# Altium schematic symbol library standard_components.SchLib: 34 symbols
Pins are listed as number, name and electrical type; pins without a type are passive.

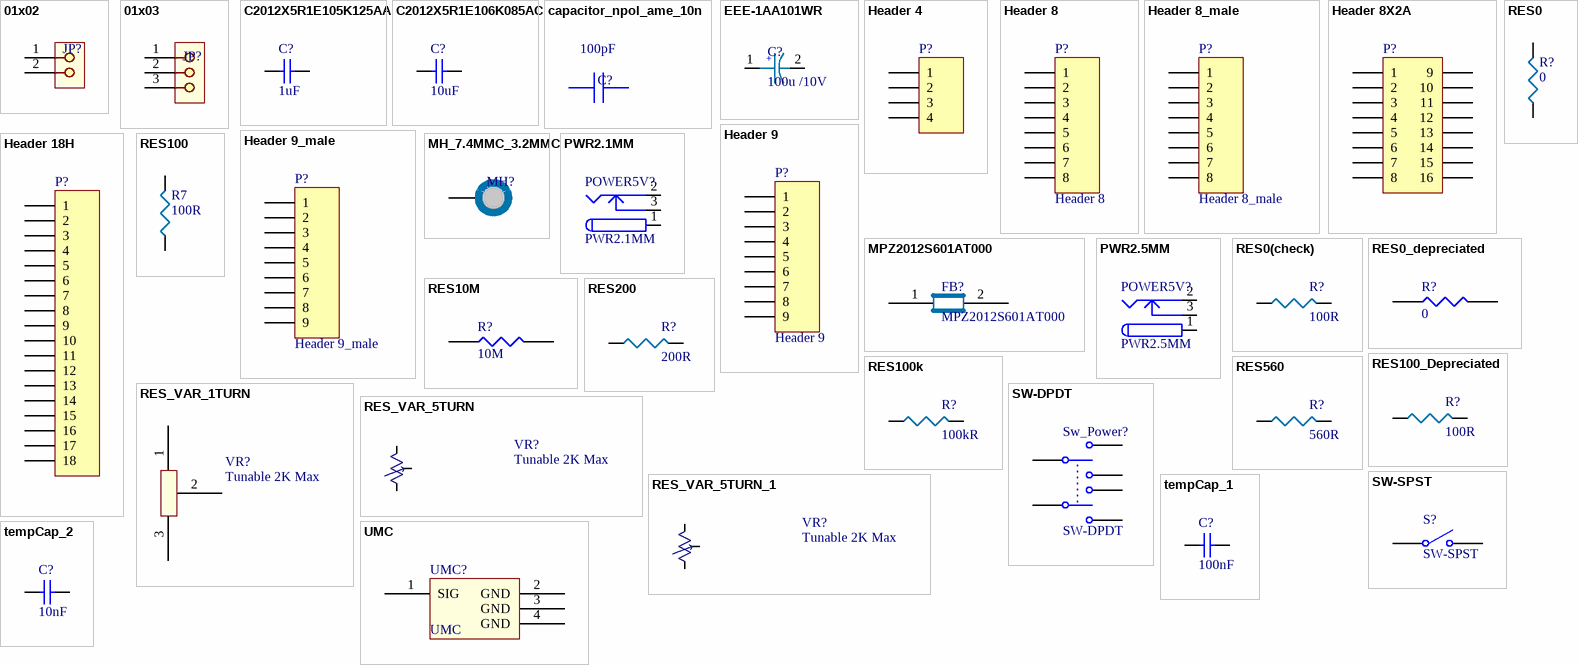
[diagram p0: symbols 01x02 to UMC]

## 01x02
designator JP?  (value not drawn)
01X02 generic terminal connector
pins: 1, 2

## 01x03
designator JP?  (value not drawn)
01X03 generic terminal connector
pins: 1, 2, 3

## C2012X5R1E105K125AA
designator C?, comment 1uF
CAP 1UF; Manufacturer: TDK; Manufacturer Part Number: C2012X5R1E105K125AA; Dielectric Material: Ceramic; Tolerance: 10%; Voltage Rating: 25V; Dielectric: X5R; Supplier 1: Digi-Key; Stock 1: 517560; Pricing 1: 1=0.21, 10=0.146, 100=0.0688, 500=0.0482, 1000=0.0399 (USD); Mount: Surface Mount; Case/Package: 0805; Number of Pins: 2; Weight: 0.000194oz; Case Code (Metric): 2012; Case Code (Imperial): 0805; Min Operating Temperature: -55°C; Max Operating Temperature: 85°C; Package Quantity: 2000; Capacitance: 1uF; Packaging: Tape and Reel; Voltage Rating (DC): 25V; Termination: SMD/SMT; Composition: Ceramic; Voltage: 25V; Length: 2mm; Height: 1.25mm; Width: 0.049inch; Thickness: 0.057inch; Depth: 1.25mm; Radiation Hardening: No; REACH SVHC: No SVHC; Lead Free: Lead Free; ComponentLink1URL: https://datasheet.ciiva.com/11787/0900766b80c1bb00-11787608.pdf; ComponentLink1Description: https://datasheet.ciiva.com/11787/0900766b80c1bb00-11787608.pdf; ComponentLink2URL: https://datasheet.ciiva.com/24218/c2012x5r1e105k125aa-264807-24218920.pdf; ComponentLink2Description: https://datasheet.ciiva.com/24218/c2012x5r1e105k125aa-264807-24218920.pdf; ComponentLink3URL: https://datasheet.ciiva.com/16449/e412-c-16449595.pdf; ComponentLink3Description: https://datasheet.ciiva.com/16449/e412-c-16449595.pdf; ComponentLink4URL: https://datasheet.ciiva.com/28602/1744655-28602171.pdf; ComponentLink4Description: https://datasheet.ciiva.com/28602/1744655-28602171.pdf; ComponentLink5URL: https://datasheet.ciiva.com/15192/getdatasheetpartid-726707-15192140.pdf; ComponentLink5Description: https://datasheet.ciiva.com/15192/getdatasheetpartid-726707-15192140.pdf; Supplier Part Number 1: 445-1419-1-ND
footprint C0805
pins: 1, 2

## C2012X5R1E106K085AC
designator C?, comment 10uF
CAP 10UF; Manufacturer: TDK; Manufacturer Part Number: C2012X5R1E106K085AC; Dielectric Material: Ceramic; Tolerance: 10%; Voltage Rating: 25V; Dielectric: X5R; Supplier 1: Digi-Key; Stock 1: 18719; Pricing 1: 1=0.75, 10=0.53, 100=0.3493, 500=0.2588, 1000=0.2199 (USD); Mount: Surface Mount; Case/Package: 0805; Weight: 0.000194oz; Case Code (Metric): 2012; Case Code (Imperial): 0805; Min Operating Temperature: -55°C; Max Operating Temperature: 85°C; Package Quantity: 4000; Packaging: Tape and Reel; Capacitance: 10uF; Termination: SMD/SMT; Voltage Rating (DC): 25V; Length: 0.079inch; Height: 0.85mm; Width: 0.049inch; Thickness: 0.039inch; Lead Free: Lead Free; ComponentLink1URL: https://datasheet.ciiva.com/14894/tdkmlcccaprange-14894629.pdf; ComponentLink1Description: https://datasheet.ciiva.com/14894/tdkmlcccaprange-14894629.pdf; ComponentLink2URL: https://datasheet.ciiva.com/14894/tdkmlcccaprange-14894616.pdf; ComponentLink2Description: https://datasheet.ciiva.com/14894/tdkmlcccaprange-14894616.pdf; ComponentLink3URL: https://datasheet.ciiva.com/14894/tdkmlcccaprange-14894632.pdf; ComponentLink3Description: https://datasheet.ciiva.com/14894/tdkmlcccaprange-14894632.pdf; Supplier Part Number 1: 445-14387-1-ND
footprint C0805
pins: 1, 2

## capacitor_npol_ame_10n
designator C?  value 100pF  (hidden comment: capacitor_npol_ame_10n)
Capacitor Non-polarized American Symbol
footprint rcl_0201i_0603m_nominal (Chip RCL, 0201 Imperial, 0603 Metric, 2-Leads, Body 0.6x0.3mm, IPC Nominal Medium Density)
footprint rcl_0402i_1005m_nominal (Chip RCL, 0402 Imperial, 1005 Metric, 2-Leads, Body 1.00x0.5mm, IPC Nominal Medium Density)
footprint rcl_0603i_1608m_nominal (Chip RCL, 0603 Imperial, 1608 Metric, 2-Leads, Body 1.6x0.8mm, IPC Nominal Medium Density)
footprint rcl_0805i_2012m_nominal (Chip RCL, 0805 Imperial, 2012 Metric, 2-Leads, Body 2.00x1.25mm, IPC Nominal Medium Density)
footprint rcl_0201i_0603m_least (Chip RCL, 0201 Imperial, 0603 Metric, 2-Leads, Body 0.6x0.3mm, IPC Least Land (High Density))
footprint rcl_0201i_0603m_most (Chip RCL, 0201 Imperial, 0603 Metric, 2-Leads, Body 0.6x0.3mm, IPC Most Land (Low Density))
footprint rcl_0402i_1005m_least (Chip RCL, 0402 Imperial, 1005 Metric, 2-Leads, Body 1.00x0.5mm, IPC Least Land (High Density))
footprint rcl_0402i_1005m_most (Chip RCL, 0402 Imperial, 1005 Metric, 2-Leads, Body 1.00x0.5mm, IPC Most Land (Low Density))
footprint rcl_0603i_1608m_least (Chip RCL, 0603 Imperial, 1608 Metric, 2-Leads, Body 1.6x0.8mm, IPC Least Land (High Density))
footprint rcl_0603i_1608m_most (Chip RCL, 0603 Imperial, 1608 Metric, 2-Leads, Body 1.6x0.8mm, IPC Most Land (Low Density))
footprint rcl_0805i_2012m_least (Chip RCL, 0805 Imperial, 2012 Metric, 2-Leads, Body 2.00x1.25mm, IPC Least Land (High Density))
footprint rcl_0805i_2012m_most (Chip RCL, 0805 Imperial, 2012 Metric, 2-Leads, Body 2.00x1.25mm, IPC Most Land (Low Density))
footprint axial_2.40mmdx6.30mml-0.094inchDx0.248inchL (Axial 2.40mm Diameter x6.30mm Length (0.094"Dx0.248"L))
pins: 1, 2

## EEE-1AA101WR
designator C?, comment 100u /10V
CAP ALUM 100UF 20% 10V SMD; Manufacturer: Panasonic Electronic Components; Manufacturer Part Number: EEE-1AA101WR; Lifetime @ Temp.: 1000 Hrs @ 85°C; Polarization: Polar; Surface Mount Land Size: 0.209" L x 0.209" W (5.30mm x 5.30mm); Supplier 1: Digi-Key; RoHS: RoHS Compliant; Category: Capacitors; Stock 1: 89696; Pricing 1: 1=0.31, 10=0.212, 100=0.1272, 500=0.09538 (USD); Packaging: Cut Tape (CT); Part Status: Active; Tolerance: ±20%; ESR (Equivalent Series Resistance): -; Operating Temperature: -40°C ~ 85°C; Ratings: AEC-Q200; Applications: Automotive; Lead Spacing: -; Size / Dimension: 0.197" Dia (5.00mm); Height - Seated (Max): 0.213" (5.40mm); Mounting Type: Surface Mount; Package / Case: Radial, Can - SMD; ComponentLink1URL: https://industrial.panasonic.com/cdbs/www-data/pdf/RDE0000/ABA0000C1145.pdf; ComponentLink1Description: https://industrial.panasonic.com/cdbs/www-data/pdf/RDE0000/ABA0000C1145.pdf; Supplier Part Number 1: PCE3867CT-ND
footprint C_ALU_C_SIZE
pins: 1, 2
text: +

## Header 4
designator P?
Header, 4-Pin; LatestRevisionDate: 17-Jul-2002; LatestRevisionNote: Re-released for DXP Platform.; Publisher: Altium Limited
footprint HDR1X4 (Connector; Header; 4 Position)
signal-integrity model Connector
pins: 1, 2, 3, 4

## Header 8
designator P?
Header, 8-Pin; Manufacturer: TE Connectivity AMP Connectors; Manufacturer Part Number: 5-535541-6; Manufacturer Link: https://www.te.com/usa-en/product-5-535541-6.html; Supplier1: Digikey; Supplier Link 1: https://www.digikey.ca/product-detail/en/te-connectivity-amp-connectors/5-535541-6/A32921-ND/1092992; Supplier Part Number 1: A32921-ND; Stock1: 2,929; Price1: 1  2.79000  $2.79  28  2.37000  $66.36  112  2.16411  $242.38  504  1.80345  $908.94  1,008  1.54581  $1,558.18  5,012  1.37062  $6,869.56  10,024  1.33971  (CAD); ComponentLink1URL: https://www.te.com/commerce/DocumentDelivery/DDEController?Action=srchrtrv&DocNm=535541&DocType=Customer+Drawing&DocLang=English; ComponentLink1Description: Datasheet
footprint TE_5-535541-6 (CONN RCPT 8POS 0.1 GOLD PCB)
signal-integrity model Connector
pins: 1, 2, 3, 4, 5, 6, 7, 8

## Header 8_male
designator P?
Header, 8-Pin; LatestRevisionDate: 17-Jul-2002; LatestRevisionNote: Re-released for DXP Platform.; Publisher: Altium Limited
footprint HDR1X8 (Connector; Header; 8 Position)
signal-integrity model Connector
pins: 1, 2, 3, 4, 5, 6, 7, 8

## Header 8X2A
designator P?
Header, 8-Pin, Dual row; LatestRevisionDate: 17-Jul-2002; LatestRevisionNote: Re-released for DXP Platform.; Publisher: Altium Limited
footprint HDR2X8_CEN (Connector; Header; 8x2 Position)
signal-integrity model Connector
footprint TE_534998-8 (CONN RCPT 16POS 0.1 GOLD PCB)
pins: 1, 2, 3, 4, 5, 6, 7, 8, 9, 10, 11, 12, 13, 14, 15, 16

## Header 9
designator P?
Header, 9-Pin; Manufacturer: TE Connectivity AMP Connectors; Manufacturer Part Number: 5-535541-7; Manufacturer Link: https://www.te.com/usa-en/product-5-535541-7.html; Supplier1: Digikey; Supplier Link 1: https://www.digikey.ca/product-detail/en/te-connectivity-amp-connectors/5-535541-7/A115427-ND/2278584; Supplier Part Number 1: A115427-ND; Stock1: 1,550; Price1: 1=2.79000;  25=2.37040;  100=2.16410;  500=1.80346;  1,000=1.54582  ;5,000=1.37062;  10,000=1.33971 (CAD); ComponentLink1URL: https://www.te.com/commerce/DocumentDelivery/DDEController?Action=srchrtrv&DocNm=535541&DocType=Customer+Drawing&DocLang=English; ComponentLink1Description: Datasheet
footprint TE_5-535541-7 (CONN RCPT 9POS 0.1 GOLD PCB)
signal-integrity model Connector
pins: 1, 2, 3, 4, 5, 6, 7, 8, 9

## Header 9_male
designator P?
Header, 9-Pin; Manufacturer: TE Connectivity AMP Connectors; Manufacturer Part Number: 3-644456-9; Manufacturer Link: https://www.te.com/global-en/product-3-644456-9.html; Supplier 1: Digikey; Supplier Link 1: https://www.digikey.ca/product-detail/en/te-connectivity-amp-connectors/3-644456-9/A31119-ND/698351; Supplier Part Number 1: A31119-ND; Stock1: 6,446; Price1: 1=0.81000;  10=0.76300;  100=0.58520;  500=0.50888;  1,000=0.41984;  5,000=0.36894;  10,000=0.34350 (CAD); ComponentLink1URL: https://www.te.com/commerce/DocumentDelivery/DDEController?Action=srchrtrv&DocNm=644456&DocType=Customer+Drawing&DocLang=English; ComponentLink1Description: Datasheet
footprint TE_3-644456-9 (Connector Header Through Hole 9 position 0.100" (2.54mm))
signal-integrity model Connector
pins: 1, 2, 3, 4, 5, 6, 7, 8, 9

## Header 18H
designator P?
Header, 18-Pin, Right Angle; LatestRevisionDate: 17-Jul-2002; LatestRevisionNote: Re-released for DXP Platform.; Publisher: Altium Limited
footprint HDR1X18H (Connector; Header; 18 Position; Right Angle)
signal-integrity model Connector
pins: 1, 2, 3, 4, 5, 6, 7, 8, 9, 10, 11, 12, 13, 14, 15, 16, 17, 18

## MH_7.4MMC_3.2MMC
designator MH?, comment MH_7.4MMC_3.2MMD  (value not drawn)  (no BOM)
Mounting Hole 7.4mm Diameter, 3.2mm Drill
footprint MH_7.4MMD_3.2MMD
pins: 1

## MPZ2012S601AT000
designator FB?
FERRITE BEAD 600 OHM 0805 1LN; Manufacturer: TDK Corporation; Filter Type: Power Line; Current Rating (Max): 2A; DC Resistance (DCR) (Max): 100 mOhm; Supplier 1: Digi-Key; Manufacturer Part Number: MPZ2012S601AT000; RoHS: RoHS Compliant; Category: Filters; Stock 1: 379833; Pricing 1: 1=0.11, 10=0.091, 25=0.0704, 50=0.0584, 100=0.0503, 250=0.04028, 500=0.03624, 1000=0.0302 (USD); Packaging: Cut Tape (CT); Part Status: Active; Ratings: -; Operating Temperature: -55°C ~ 125°C; Package / Case: 0805 (2012 Metric); Mounting Type: Surface Mount; Height (Max): 0.041" (1.05mm); Size / Dimension: 0.079" L x 0.049" W (2.00mm x 1.25mm); ComponentLink1URL: https://product.tdk.com/info/en/catalog/datasheets/beads_commercial_power_mpz2012_en.pdf; ComponentLink1Description: https://product.tdk.com/info/en/catalog/datasheets/beads_commercial_power_mpz2012_en.pdf; Supplier Part Number 1: 445-2206-1-ND
footprint C0805
pins: 1, 2

## PWR2.1MM
designator POWER5V?
PJ-002AH; Manufacturer: CUI; Gender: Male; Shielding: Unshielded; Connector Type: Jack; Current Rating: 5A; Number of Conductors: 2; Voltage Rating: 24V; Insulation Resistance: 50MR; Supplier 1: Digi-Key; Manufacturer Part Number: PJ-002AH; Stock 1: 95768; Pricing 1: 1=0.74, 10=0.696, 25=0.6264, 50=0.5568, 100=0.5336, 250=0.4872, 500=0.464, 1000=0.3828, 2500=0.348 (USD); Mount: Through Hole; Colour: Black; Contact Material: Copper,Copper Alloy; Contact Plating: Nickel; Housing Material: Thermoplastic; Housing Colour: Black; Min Operating Temperature: -25°C; Max Operating Temperature: 85°C; Packaging: Bulk; Termination: Through Hole; Orientation: Horizontal; Package Quantity: 500; Contact Gender: Male; Diameter: 2.1mm; Lead Free: Lead Free; Flammability Rating: UL94 V-0; ComponentLink1URL: http://www.cui.com/Product/Resource/FuturePDF/PJ-002AH.pdf; ComponentLink1Description: http://www.cui.com/Product/Resource/FuturePDF/PJ-002AH.pdf; ComponentLink2URL: http://www.cui.com/product/resource/digikeypdf/pj-002ah.pdf; ComponentLink2Description: http://www.cui.com/product/resource/digikeypdf/pj-002ah.pdf; ComponentLink3URL: http://www.mouser.com/ds/2/670/pj-002ah-516007.pdf; ComponentLink3Description: http://www.mouser.com/ds/2/670/pj-002ah-516007.pdf; Supplier Part Number 1: CP-002AH-ND
footprint POWER2.1MM
pins: 1 (power), 2 (power), 3 (power)

## PWR2.5MM
designator POWER5V?
PJ-002BH; Manufacturer: CUI; Gender: Male; Shielding: Unshielded; Current Rating: 5A; Connector Type: Jack; Voltage Rating: 24V; Insulation Resistance: 100MR; Number of Conductors: 2; Supplier 1: Digi-Key; Manufacturer Part Number: PJ-002BH; Stock 1: 29521; Pricing 1: 1=0.74, 10=0.696, 25=0.6264, 50=0.5568, 100=0.5336, 250=0.4872, 500=0.464, 1000=0.3828, 2500=0.348 (USD); Mount: Through Hole; Contact Material: Copper,Copper Alloy; Contact Plating: Nickel; Housing Colour: Black; Housing Material: Thermoplastic; Colour: Black; Min Operating Temperature: -25°C; Max Operating Temperature: 85°C; Termination: Through Hole; Package Quantity: 500; Packaging: Bulk; Contact Gender: Male; Orientation: Horizontal; Diameter: 2.5mm; Lead Free: Lead Free; Flammability Rating: UL94 V-0; ComponentLink1URL: http://www.cui.com/Product/Resource/FuturePDF/PJ-002BH.pdf; ComponentLink1Description: http://www.cui.com/Product/Resource/FuturePDF/PJ-002BH.pdf; ComponentLink2URL: http://www.mouser.com/ds/2/670/pj-002bh-528069.pdf; ComponentLink2Description: http://www.mouser.com/ds/2/670/pj-002bh-528069.pdf; ComponentLink3URL: http://www.cui.com/product/resource/digikeypdf/pj-002bh.pdf; ComponentLink3Description: http://www.cui.com/product/resource/digikeypdf/pj-002bh.pdf; Supplier Part Number 1: CP-002BH-ND
footprint POWER2.5MM
pins: 1 (power), 2 (power), 3 (power)

## RES0
designator R?, comment 0
RC0805JR-070RL; Manufacturer: Yageo; Tolerance: 1%; Resistance: 0R; Temperature Coefficient: 100ppm/°C; Power Rating: 125mW; Voltage Rating: 150V; Supplier 1: Digi-Key; Manufacturer Part Number: RC0805JR-070RL; Stock 1: 3924855; Pricing 1: 1=0.15;  10=0.055;  25=0.0408;  50=0.0308;  100=0.0229;  250=0.01740;  500=0.0139;  1000=0.01024 (CAD); Case/Package: 0805; Case Code (Metric): 2012; Case Code (Imperial): 0805; Min Operating Temperature: -55°C; Max Operating Temperature: 155°C; Packaging: Tape and Reel; Composition: Thick Film; Package Quantity: 1; Number of Terminations: 2; Termination: SMD/SMT; Military Standard: Not; Max Power Dissipation: 125mW; Length: 2mm; Depth: 1.25mm; REACH SVHC: Unknown; Lead Free: Lead Free; Supplier Part Number 1: 311-0.0ARCT-ND; Supplier Link 1: https://www.digikey.ca/product-detail/en/yageo/RC0805JR-070RL/311-0.0ARCT-ND/731163
footprint R0805
pins: 1, 2

## RES0(check)
designator R?, comment 100R
RC0805FR-07100RL; Manufacturer: Yageo; Manufacturer Part Number: RC0805FR-07560RL; Tolerance: 1%; Temperature Coefficient: 100ppm/°C; Power Rating: 125mW; Voltage Rating: 150V; Supplier 1: Digi-Key; Stock 1: 8,560; Pricing 1: 1=0.15, 10=0.079, 100=0.032, 1000=0.01438, 2500=0.01247 (CAD); Case/Package: 0805; Weight: 0.000194oz; Case Code (Metric): 2012; Case Code (Imperial): 0805; Min Operating Temperature: -55°C; Max Operating Temperature: 155°C; Resistance: 100R; Packaging: Tape and Reel; Composition: Thick Film; Package Quantity: 1; Number of Terminations: 2; Termination: SMD/SMT; Military Standard: Not; Max Power Dissipation: 125mW; Length: 2mm; Height: 0.5mm; Width: 0.049inch; Depth: 1.25mm; REACH SVHC: Unknown; Lead Free: Lead Free; ComponentLink1URL: https://datasheet.ciiva.com/11808/0900766b8106beab-11808370.pdf; ComponentLink1Description: https://datasheet.ciiva.com/11808/0900766b8106beab-11808370.pdf; ComponentLink2URL: https://datasheet.ciiva.com/2457/pyu-r-int-thick-7-2457140.pdf; ComponentLink2Description: https://datasheet.ciiva.com/2457/pyu-r-int-thick-7-2457140.pdf; ComponentLink3URL: https://datasheet.ciiva.com/2457/pyu-r-int-thick-7-2457141.pdf; ComponentLink3Description: https://datasheet.ciiva.com/2457/pyu-r-int-thick-7-2457141.pdf; ComponentLink4URL: https://datasheet.ciiva.com/5561/rc0805-5561861.pdf; ComponentLink4Description: https://datasheet.ciiva.com/5561/rc0805-5561861.pdf; ComponentLink5URL: https://datasheet.ciiva.com/7941/444164-7941813.pdf; ComponentLink5Description: https://datasheet.ciiva.com/7941/444164-7941813.pdf; ComponentLink6URL: https://datasheet.ciiva.com/2457/pyu-r-int-thick-7-2457142.pdf; ComponentLink6Description: https://datasheet.ciiva.com/2457/pyu-r-int-thick-7-2457142.pdf; ComponentLink7URL: https://datasheet.ciiva.com/7941/444164-7941814.pdf; ComponentLink7Description: https://datasheet.ciiva.com/7941/444164-7941814.pdf; Supplier Part Number 1: 311-100CRCT-ND
footprint R0805
pins: 1, 2

## RES0_depreciated
designator R?, comment 0
RT0805BRE07200RL; Manufacturer: Yageo; Resistance: 200R; Tolerance: 0.1%; Temperature Coefficient: 50ppm/°C; Voltage Rating (DC): 150V; Supplier 1: Digi-Key; Manufacturer Part Number: RT0805BRE07200RL; Stock 1: 2864; Pricing 1: 1=0.33, 10=0.276, 100=0.1077, 1000=0.0451, 2500=0.0413 (USD); Case/Package: 0805; Contact Plating: Tin,Matte; Min Operating Temperature: -55°C; Max Operating Temperature: 125°C; Composition: Thin Film; Packaging: Tape and Reel; Military Standard: Not; Length: 2mm; Depth: 1.25mm; Width: 1.25mm; Radiation Hardening: No; Lead Free: Lead Free; ComponentLink1URL: https://datasheet.ciiva.com/8886/pyu-rt-1-to-0-05-rohs-l-4-8886876.pdf; ComponentLink1Description: https://datasheet.ciiva.com/8886/pyu-rt-1-to-0-05-rohs-l-4-8886876.pdf; Supplier Part Number 1: YAG4969CT-ND
footprint R0805
pins: 1, 2
2 alternate drawings of the same symbol

## RES10M
designator R?, comment 10M
RC0805FR-0710ML; Manufacturer: Yageo; Voltage Rating: 150V; Power Rating: 125mW; Tolerance: 1%; Resistance: 10MR; Temperature Coefficient: 100ppm/°C; Supplier 1: Digi-Key; Manufacturer Part Number: RC0805FR-0710ML; Stock 1: 482639; Pricing 1: 1=0.1, 10=0.023, 100=0.0094, 1000=0.0042, 2500=0.0037 (USD); Case/Package: 0805; Number of Pins: 2; Case Code (Imperial): 0805; Case Code (Metric): 2012; Min Operating Temperature: -55°C; Max Operating Temperature: 155°C; Packaging: Tape and Reel; Voltage Rating (DC): 150V; Termination: SMD/SMT; Composition: Thick Film; Military Standard: Not; Working Voltage: 150V; Number of Terminations: 2; Length: 2mm; Height: 0.5mm; Width: 1.25mm; Depth: 1.25mm; REACH SVHC: Unknown; Lead Free: Lead Free; ComponentLink1URL: https://datasheet.ciiva.com/11819/0900766b8106beab-11819794.pdf; ComponentLink1Description: https://datasheet.ciiva.com/11819/0900766b8106beab-11819794.pdf; ComponentLink2URL: https://datasheet.ciiva.com/7941/444164-7941685.pdf; ComponentLink2Description: https://datasheet.ciiva.com/7941/444164-7941685.pdf; ComponentLink3URL: https://datasheet.ciiva.com/7941/444164-7941686.pdf; ComponentLink3Description: https://datasheet.ciiva.com/7941/444164-7941686.pdf; ComponentLink4URL: https://datasheet.ciiva.com/46447/444164-46447564.pdf; ComponentLink4Description: https://datasheet.ciiva.com/46447/444164-46447564.pdf; ComponentLink5URL: https://datasheet.ciiva.com/12667/rc0805-12667934.pdf; ComponentLink5Description: https://datasheet.ciiva.com/12667/rc0805-12667934.pdf; ComponentLink6URL: https://datasheet.ciiva.com/16741/rc0805-16741023.pdf; ComponentLink6Description: https://datasheet.ciiva.com/16741/rc0805-16741023.pdf; Supplier Part Number 1: 311-10.0MCRCT-ND
footprint R0805
pins: 1, 2
2 alternate drawings of the same symbol

## RES100
designator R7, comment 100R
RC0805FR-07100RL; Manufacturer: Panasonic Electronic Components; Manufacturer Part Number: ERJ-6ENF1000V; Tolerance: 1%; Temperature Coefficient: 100ppm/°C; Power Rating: 125mW; Voltage Rating: 150V; Supplier 1: Digi-Key; Stock 1: 1859281; Pricing 1: 1=0.16;  10=0.15;  100=0.05760;  1000=0.02535;  2500=0.02190  (CAD); Case/Package: 0805; Case Code (Metric): 2012; Case Code (Imperial): 0805; Min Operating Temperature: -55°C; Max Operating Temperature: 155°C; Resistance: 100R; Packaging: Paper Tape; Composition: Thick Film; Package Quantity: 1; Number of Terminations: 2; Termination: SMD/SMT; Military Standard: Not; Max Power Dissipation: 125mW; REACH SVHC: Unknown; Lead Free: Lead Free; ComponentLink1URL: https://industrial.panasonic.com/cdbs/www-data/pdf/RDA0000/AOA0000C304.pdf; ComponentLink1Description: Datasheet; ComponentLink2URL: https://industrial.panasonic.com/ww/products/resistors/chip-resistors/general-purpose-chip-resistors/precision-thick-film-chip-resistors/ERJ6ENF1000V; ComponentLink2Description: Specifications; Supplier Part Number 1: P100CCT-ND; Weight: 4mg; Length: 2mm; Width: 1.25mm; Supplier Link 1: https://www.digikey.ca/product-detail/en/panasonic-electronic-components/ERJ-6ENF1000V/P100CCT-ND/118668
footprint R0805
pins: 1, 2

## RES100_Depreciated
designator R?, comment 100R
RC0805FR-07100RL; Manufacturer: Yageo; Manufacturer Part Number: RC0805FR-07560RL; Tolerance: 1%; Temperature Coefficient: 100ppm/°C; Power Rating: 125mW; Voltage Rating: 150V; Supplier 1: Digi-Key; Stock 1: 8,560; Pricing 1: 1=0.15, 10=0.079, 100=0.032, 1000=0.01438, 2500=0.01247 (CAD); Case/Package: 0805; Weight: 0.000194oz; Case Code (Metric): 2012; Case Code (Imperial): 0805; Min Operating Temperature: -55°C; Max Operating Temperature: 155°C; Resistance: 100R; Packaging: Tape and Reel; Composition: Thick Film; Package Quantity: 1; Number of Terminations: 2; Termination: SMD/SMT; Military Standard: Not; Max Power Dissipation: 125mW; Length: 2mm; Height: 0.5mm; Width: 0.049inch; Depth: 1.25mm; REACH SVHC: Unknown; Lead Free: Lead Free; ComponentLink1URL: https://datasheet.ciiva.com/11808/0900766b8106beab-11808370.pdf; ComponentLink1Description: https://datasheet.ciiva.com/11808/0900766b8106beab-11808370.pdf; ComponentLink2URL: https://datasheet.ciiva.com/2457/pyu-r-int-thick-7-2457140.pdf; ComponentLink2Description: https://datasheet.ciiva.com/2457/pyu-r-int-thick-7-2457140.pdf; ComponentLink3URL: https://datasheet.ciiva.com/2457/pyu-r-int-thick-7-2457141.pdf; ComponentLink3Description: https://datasheet.ciiva.com/2457/pyu-r-int-thick-7-2457141.pdf; ComponentLink4URL: https://datasheet.ciiva.com/5561/rc0805-5561861.pdf; ComponentLink4Description: https://datasheet.ciiva.com/5561/rc0805-5561861.pdf; ComponentLink5URL: https://datasheet.ciiva.com/7941/444164-7941813.pdf; ComponentLink5Description: https://datasheet.ciiva.com/7941/444164-7941813.pdf; ComponentLink6URL: https://datasheet.ciiva.com/2457/pyu-r-int-thick-7-2457142.pdf; ComponentLink6Description: https://datasheet.ciiva.com/2457/pyu-r-int-thick-7-2457142.pdf; ComponentLink7URL: https://datasheet.ciiva.com/7941/444164-7941814.pdf; ComponentLink7Description: https://datasheet.ciiva.com/7941/444164-7941814.pdf; Supplier Part Number 1: 311-100CRCT-ND
footprint R0805
pins: 1, 2

## RES100k
designator R?, comment 100kR
NEED TO FIND COMPONENT; Manufacturer: Yageo; Manufacturer Part Number: RC0805FR-07560RL; Resistance: 560R; Temperature Coefficient: 100ppm/°C; Power Rating: 125mW; Supplier 1: Digi-Key; Stock 1: 362473; Pricing 1: 1=0.1, 10=0.022, 100=0.0088, 1000=0.004, 2500=0.0034 (USD); Case/Package: 0805; Weight: 0.000194oz; Case Code (Metric): 2012; Case Code (Imperial): 0805; Min Operating Temperature: -55°C; Max Operating Temperature: 155°C; Tolerance: FIND; Packaging: Tape and Reel; Composition: Thick Film; Voltage Rating: FIND; Package Quantity: 1; Number of Terminations: 2; Termination: SMD/SMT; Military Standard: Not; Max Power Dissipation: 125mW; Length: 2mm; Height: 0.5mm; Width: 0.049inch; Depth: 1.25mm; REACH SVHC: Unknown; Lead Free: Lead Free; ComponentLink1URL: https://datasheet.ciiva.com/11808/0900766b8106beab-11808370.pdf; ComponentLink1Description: https://datasheet.ciiva.com/11808/0900766b8106beab-11808370.pdf; ComponentLink2URL: https://datasheet.ciiva.com/2457/pyu-r-int-thick-7-2457140.pdf; ComponentLink2Description: https://datasheet.ciiva.com/2457/pyu-r-int-thick-7-2457140.pdf; ComponentLink3URL: https://datasheet.ciiva.com/2457/pyu-r-int-thick-7-2457141.pdf; ComponentLink3Description: https://datasheet.ciiva.com/2457/pyu-r-int-thick-7-2457141.pdf; ComponentLink4URL: https://datasheet.ciiva.com/5561/rc0805-5561861.pdf; ComponentLink4Description: https://datasheet.ciiva.com/5561/rc0805-5561861.pdf; ComponentLink5URL: https://datasheet.ciiva.com/7941/444164-7941813.pdf; ComponentLink5Description: https://datasheet.ciiva.com/7941/444164-7941813.pdf; ComponentLink6URL: https://datasheet.ciiva.com/2457/pyu-r-int-thick-7-2457142.pdf; ComponentLink6Description: https://datasheet.ciiva.com/2457/pyu-r-int-thick-7-2457142.pdf; ComponentLink7URL: https://datasheet.ciiva.com/7941/444164-7941814.pdf; ComponentLink7Description: https://datasheet.ciiva.com/7941/444164-7941814.pdf; Supplier Part Number 1: FIND
footprint R0805
pins: 1, 2

## RES200
designator R?, comment 200R
NEED TO FIND COMPONENT; Manufacturer: Yageo; Manufacturer Part Number: RC0805FR-07560RL; Resistance: 560R; Temperature Coefficient: 100ppm/°C; Power Rating: 125mW; Supplier 1: Digi-Key; Stock 1: 362473; Pricing 1: 1=0.1, 10=0.022, 100=0.0088, 1000=0.004, 2500=0.0034 (USD); Case/Package: 0805; Weight: 0.000194oz; Case Code (Metric): 2012; Case Code (Imperial): 0805; Min Operating Temperature: -55°C; Max Operating Temperature: 155°C; Tolerance: FIND; Packaging: Tape and Reel; Composition: Thick Film; Voltage Rating: FIND; Package Quantity: 1; Number of Terminations: 2; Termination: SMD/SMT; Military Standard: Not; Max Power Dissipation: 125mW; Length: 2mm; Height: 0.5mm; Width: 0.049inch; Depth: 1.25mm; REACH SVHC: Unknown; Lead Free: Lead Free; ComponentLink1URL: https://datasheet.ciiva.com/11808/0900766b8106beab-11808370.pdf; ComponentLink1Description: https://datasheet.ciiva.com/11808/0900766b8106beab-11808370.pdf; ComponentLink2URL: https://datasheet.ciiva.com/2457/pyu-r-int-thick-7-2457140.pdf; ComponentLink2Description: https://datasheet.ciiva.com/2457/pyu-r-int-thick-7-2457140.pdf; ComponentLink3URL: https://datasheet.ciiva.com/2457/pyu-r-int-thick-7-2457141.pdf; ComponentLink3Description: https://datasheet.ciiva.com/2457/pyu-r-int-thick-7-2457141.pdf; ComponentLink4URL: https://datasheet.ciiva.com/5561/rc0805-5561861.pdf; ComponentLink4Description: https://datasheet.ciiva.com/5561/rc0805-5561861.pdf; ComponentLink5URL: https://datasheet.ciiva.com/7941/444164-7941813.pdf; ComponentLink5Description: https://datasheet.ciiva.com/7941/444164-7941813.pdf; ComponentLink6URL: https://datasheet.ciiva.com/2457/pyu-r-int-thick-7-2457142.pdf; ComponentLink6Description: https://datasheet.ciiva.com/2457/pyu-r-int-thick-7-2457142.pdf; ComponentLink7URL: https://datasheet.ciiva.com/7941/444164-7941814.pdf; ComponentLink7Description: https://datasheet.ciiva.com/7941/444164-7941814.pdf; Supplier Part Number 1: FIND
footprint R0805
pins: 1, 2

## RES560
designator R?, comment 560R
RC0805FR-07560RL; Manufacturer: Yageo; Tolerance: 1%; Temperature Coefficient: 100ppm/°C; Power Rating: 125mW; Voltage Rating: 150V; Supplier 1: Digi-Key; Manufacturer Part Number: RC0805FR-07560RL; Stock 1: 362473; Pricing 1: 1=0.1, 10=0.022, 100=0.0088, 1000=0.004, 2500=0.0034 (USD); Case/Package: 0805; Weight: 0.000194oz; Case Code (Metric): 2012; Case Code (Imperial): 0805; Min Operating Temperature: -55°C; Max Operating Temperature: 155°C; Resistance: 560R; Packaging: Tape and Reel; Composition: Thick Film; Package Quantity: 1; Number of Terminations: 2; Termination: SMD/SMT; Military Standard: Not; Max Power Dissipation: 125mW; Length: 2mm; Height: 0.5mm; Width: 0.049inch; Depth: 1.25mm; REACH SVHC: Unknown; Lead Free: Lead Free; ComponentLink1URL: https://datasheet.ciiva.com/11808/0900766b8106beab-11808370.pdf; ComponentLink1Description: https://datasheet.ciiva.com/11808/0900766b8106beab-11808370.pdf; ComponentLink2URL: https://datasheet.ciiva.com/2457/pyu-r-int-thick-7-2457140.pdf; ComponentLink2Description: https://datasheet.ciiva.com/2457/pyu-r-int-thick-7-2457140.pdf; ComponentLink3URL: https://datasheet.ciiva.com/2457/pyu-r-int-thick-7-2457141.pdf; ComponentLink3Description: https://datasheet.ciiva.com/2457/pyu-r-int-thick-7-2457141.pdf; ComponentLink4URL: https://datasheet.ciiva.com/5561/rc0805-5561861.pdf; ComponentLink4Description: https://datasheet.ciiva.com/5561/rc0805-5561861.pdf; ComponentLink5URL: https://datasheet.ciiva.com/7941/444164-7941813.pdf; ComponentLink5Description: https://datasheet.ciiva.com/7941/444164-7941813.pdf; ComponentLink6URL: https://datasheet.ciiva.com/2457/pyu-r-int-thick-7-2457142.pdf; ComponentLink6Description: https://datasheet.ciiva.com/2457/pyu-r-int-thick-7-2457142.pdf; ComponentLink7URL: https://datasheet.ciiva.com/7941/444164-7941814.pdf; ComponentLink7Description: https://datasheet.ciiva.com/7941/444164-7941814.pdf; Supplier Part Number 1: 311-560CRCT-ND
footprint R0805
pins: 1, 2

## RES_VAR_1TURN
designator VR?, comment Tunable 2K Max
ST-4ETB202; Manufacturer: Nidec Copal; Resistance: 2kR; Tolerance: 20%; Number of Turns: 1; Max Power Dissipation: 250mW; Temperature Coefficient: 100ppm/°C; Supplier 1: Digi-Key; Manufacturer Part Number: ST-4ETB202; Stock 1: 12486; Pricing 1: 1=1.26, 10=1.114, 25=1.0004, 50=0.965, 100=0.9262, 250=0.8696 (USD); Mount: Surface Mount; Weight: 120mg; Colour: Black; Min Operating Temperature: -55°C; Max Operating Temperature: 125°C; Termination: Gull Wing; Packaging: Tape and Reel; Composition: Cermet; Length: 0.197inch; Height: 0.091inch; Width: 0.177inch; Radiation Hardening: No; Lead Free: Lead Free; ComponentLink1URL: https://datasheet.ciiva.com/2157/st-4-2157762.pdf; ComponentLink1Description: https://datasheet.ciiva.com/2157/st-4-2157762.pdf; ComponentLink2URL: https://datasheet.ciiva.com/2157/st-4-2157763.pdf; ComponentLink2Description: https://datasheet.ciiva.com/2157/st-4-2157763.pdf; ComponentLink3URL: https://datasheet.ciiva.com/2157/st-4-2157764.pdf; ComponentLink3Description: https://datasheet.ciiva.com/2157/st-4-2157764.pdf; Supplier Part Number 1: ST4ETB202CT-ND
footprint res_var (Footprint not found)
pins: 1, 2, 3

## RES_VAR_5TURN
designator VR?, comment Tunable 2K Max
SM-43TW202; Manufacturer: Nidec Copal; Resistance: 2kR; Tolerance: 10%; Number of Turns: 5; Max Power Dissipation: 250mW; Temperature Coefficient: 100ppm/°C; Supplier 1: Digi-Key; Manufacturer Part Number: SM-43TW202; Stock 1: 119; Pricing 1: 1=3.03, 10=2.663, 25=2.388, 50=2.296, 100=2.2042 (USD); Mount: Surface Mount; Min Operating Temperature: -65°C; Max Operating Temperature: 150°C; Package Quantity: 1; Packaging: Tape and Reel; Composition: Cermet; Length: 0.189inch; Height: 0.201inch; Width: 0.138inch; Radiation Hardening: No; ComponentLink1URL: https://datasheet.ciiva.com/2158/sm-42sm-43-2158176.pdf; ComponentLink1Description: https://datasheet.ciiva.com/2158/sm-42sm-43-2158176.pdf; ComponentLink2URL: https://datasheet.ciiva.com/2158/sm-42sm-43-2158174.pdf; ComponentLink2Description: https://datasheet.ciiva.com/2158/sm-42sm-43-2158174.pdf; ComponentLink3URL: https://datasheet.ciiva.com/2158/sm-42sm-43-2158175.pdf; ComponentLink3Description: https://datasheet.ciiva.com/2158/sm-42sm-43-2158175.pdf; Supplier Part Number 1: SM-43TW202CT-ND
footprint res_var_5turn
pins: 1, 2, 3

## RES_VAR_5TURN_1
designator VR?, comment Tunable 2K Max
SM-43TW202; Manufacturer: Nidec Copal; Resistance: 2kR; Tolerance: 10%; Number of Turns: 5; Max Power Dissipation: 250mW; Temperature Coefficient: 100ppm/°C; Supplier 1: Digi-Key; Manufacturer Part Number: SM-43TW202; Stock 1: 119; Pricing 1: 1=3.03, 10=2.663, 25=2.388, 50=2.296, 100=2.2042 (USD); Mount: Surface Mount; Min Operating Temperature: -65°C; Max Operating Temperature: 150°C; Package Quantity: 1; Packaging: Tape and Reel; Composition: Cermet; Length: 0.189inch; Height: 0.201inch; Width: 0.138inch; Radiation Hardening: No; ComponentLink1URL: https://datasheet.ciiva.com/2158/sm-42sm-43-2158176.pdf; ComponentLink1Description: https://datasheet.ciiva.com/2158/sm-42sm-43-2158176.pdf; ComponentLink2URL: https://datasheet.ciiva.com/2158/sm-42sm-43-2158174.pdf; ComponentLink2Description: https://datasheet.ciiva.com/2158/sm-42sm-43-2158174.pdf; ComponentLink3URL: https://datasheet.ciiva.com/2158/sm-42sm-43-2158175.pdf; ComponentLink3Description: https://datasheet.ciiva.com/2158/sm-42sm-43-2158175.pdf; Supplier Part Number 1: SM-43TW202CT-ND
footprint res_var_5turn
pins: 1, 2, 3

## SW-DPDT
designator Sw_Power?
TL2201EEYA; Manufacturer: E-Switch; Illumination Type: Illuminated; Voltage Rating (DC): 30V; Throw Configuration: DPDT; Current Rating: 100mA; Electrical Life: 10000Cycles; Switch Function: On-On; Actuator Length: 3.2mm; Supplier 1: Digi-Key; Manufacturer Part Number: TL2201EEYA; Stock 1: 3330; Pricing 1: 1=0.66, 10=0.62, 25=0.59, 50=0.5606, 100=0.5458, 250=0.531, 500=0.5015, 1000=0.472, 5000=0.3983 (USD); Mount: Through Hole; Contact Plating: Silver; Housing Material: PBT; Package Quantity: 700; Packaging: Bulk; Termination: PC Pin; Max Voltage Rating (DC): 30V; Orientation: Straight; Lead Free: Lead Free; ComponentLink1URL: https://datasheet.ciiva.com/16192/p010354-16192227.pdf; ComponentLink1Description: https://datasheet.ciiva.com/16192/p010354-16192227.pdf; ComponentLink2URL: https://datasheet.ciiva.com/2879/tl2201-2879556.pdf; ComponentLink2Description: https://datasheet.ciiva.com/2879/tl2201-2879556.pdf; ComponentLink3URL: https://datasheet.ciiva.com/16368/tl2201-16368893.pdf; ComponentLink3Description: https://datasheet.ciiva.com/16368/tl2201-16368893.pdf; Supplier Part Number 1: TL2201EEYA-ND
footprint DPDT-6-1 (Switch; 6 Leads)
pins: 1, 2, 3, 4, 5, 6

## SW-SPST
designator S?
L101011MS02Q; Manufacturer: ITT C&K; Actuator Material: Nylon,Polyamide; Max Voltage Rating (AC): 250V; Max Voltage Rating (DC): 125V; Throw Configuration: SPST; Max Current Rating: 4A; Voltage Rating (DC): 28V; Contact Current Rating: 2A; Electrical Life: 10000Cycles; Switch Travel: 3.81mm; Switch Function: On-Off; Actuator Length: 5.08mm; Supplier 1: Digi-Key; Manufacturer Part Number: L101011MS02Q; Stock 1: 8267; Pricing 1: 1=1.65, 10=1.584, 25=1.5504, 50=1.3482, 100=1.3145, 250=1.2808, 500=1.0786, 1000=1.0112, 5000=0.9269 (USD); Mount: Through Hole; Contact Material: Copper; Contact Plating: Silver; Housing Material: Nylon; Min Operating Temperature: -30°C; Max Operating Temperature: 65°C; Termination: PC Pins; Voltage Rating (AC): 125V; Package Quantity: 1; Packaging: Bulk; Current Rating: 4A; Orientation: Straight; Length: 19.1mm; Depth: 10.8mm; Radiation Hardening: No; Lead Free: Lead Free; ComponentLink1URL: https://datasheet.ciiva.com/17406/l-10jun14-17406600.pdf; ComponentLink1Description: https://datasheet.ciiva.com/17406/l-10jun14-17406600.pdf; ComponentLink2URL: https://datasheet.ciiva.com/18147/getdatasheetpartid-301248-18147196.pdf; ComponentLink2Description: https://datasheet.ciiva.com/18147/getdatasheetpartid-301248-18147196.pdf; ComponentLink3URL: https://datasheet.ciiva.com/2889/l-10jun14-2889869.pdf; ComponentLink3Description: https://datasheet.ciiva.com/2889/l-10jun14-2889869.pdf; Supplier Part Number 1: CKC5106-ND
footprint SPST-2 (Switch; 2 Leads)
pins: 1 COMMON, 2 NO

## tempCap_1
designator C?, comment 100nF
CAP 0.1UF; Manufacturer: TDK; Manufacturer Part Number: C2012X5R1E106K085AC; Dielectric Material: Ceramic; Capacitance: 10uF; Tolerance: 10%; Voltage Rating: 25V; Dielectric: X5R; Supplier 1: Digi-Key; Stock 1: 18719; Pricing 1: 1=0.75, 10=0.53, 100=0.3493, 500=0.2588, 1000=0.2199 (USD); Mount: Surface Mount; Case/Package: 0805; Weight: 0.000194oz; Case Code (Metric): 2012; Case Code (Imperial): 0805; Min Operating Temperature: -55°C; Max Operating Temperature: 85°C; Package Quantity: 4000; Packaging: Tape and Reel; Termination: SMD/SMT; Voltage Rating (DC): 25V; Length: 0.079inch; Height: 0.85mm; Width: 0.049inch; Thickness: 0.039inch; Lead Free: Lead Free; ComponentLink1URL: https://datasheet.ciiva.com/14894/tdkmlcccaprange-14894629.pdf; ComponentLink1Description: https://datasheet.ciiva.com/14894/tdkmlcccaprange-14894629.pdf; ComponentLink2URL: https://datasheet.ciiva.com/14894/tdkmlcccaprange-14894616.pdf; ComponentLink2Description: https://datasheet.ciiva.com/14894/tdkmlcccaprange-14894616.pdf; ComponentLink3URL: https://datasheet.ciiva.com/14894/tdkmlcccaprange-14894632.pdf; ComponentLink3Description: https://datasheet.ciiva.com/14894/tdkmlcccaprange-14894632.pdf; Supplier Part Number 1: 445-14387-1-ND
footprint C0805
pins: 1, 2

## tempCap_2
designator C?, comment 10nF
CAP 0.01UF; Manufacturer: TDK; Manufacturer Part Number: C2012X5R1E106K085AC; Dielectric Material: Ceramic; Capacitance: 10uF; Tolerance: 10%; Voltage Rating: 25V; Dielectric: X5R; Supplier 1: Digi-Key; Stock 1: 18719; Pricing 1: 1=0.75, 10=0.53, 100=0.3493, 500=0.2588, 1000=0.2199 (USD); Mount: Surface Mount; Case/Package: 0805; Weight: 0.000194oz; Case Code (Metric): 2012; Case Code (Imperial): 0805; Min Operating Temperature: -55°C; Max Operating Temperature: 85°C; Package Quantity: 4000; Packaging: Tape and Reel; Termination: SMD/SMT; Voltage Rating (DC): 25V; Length: 0.079inch; Height: 0.85mm; Width: 0.049inch; Thickness: 0.039inch; Lead Free: Lead Free; ComponentLink1URL: https://datasheet.ciiva.com/14894/tdkmlcccaprange-14894629.pdf; ComponentLink1Description: https://datasheet.ciiva.com/14894/tdkmlcccaprange-14894629.pdf; ComponentLink2URL: https://datasheet.ciiva.com/14894/tdkmlcccaprange-14894616.pdf; ComponentLink2Description: https://datasheet.ciiva.com/14894/tdkmlcccaprange-14894616.pdf; ComponentLink3URL: https://datasheet.ciiva.com/14894/tdkmlcccaprange-14894632.pdf; ComponentLink3Description: https://datasheet.ciiva.com/14894/tdkmlcccaprange-14894632.pdf; Supplier Part Number 1: 445-14387-1-ND
footprint C0805
pins: 1, 2

## UMC
designator UMC?
0734120110; Manufacturer: Molex; Body Material: Bronze; Body Plating: Nickel; Dielectric Material: Polymer; Frequency: 6Hz; Impedance: 50R; Connector Type: Coaxial,Male Pin; Max Frequency: 6GHz; Voltage Rating: 60V; Supplier 1: Digi-Key; Manufacturer Part Number: 0734120110; Stock 1: 37054; Pricing 1: 1=0.73, 10=0.688, 25=0.6188, 50=0.5502, 100=0.5273, 250=0.4814, 500=0.4585, 1000=0.3783, 2500=0.3439 (USD); Mount: Surface Mount; Contact Plating: Gold; Contact Material: Bronze,Brass; Housing Colour: Silver; Insulation Material: Polymer; Min Operating Temperature: -40°C; Max Operating Temperature: 90°C; Packaging: Tape and Reel; Termination: Solder; Package Quantity: 1; Fastening Type: Snap; Length: 3mm; Depth: 3mm; Radiation Hardening: No; ComponentLink1URL: https://datasheet.ciiva.com/3132/0734120110-rf-coax-connectors-3132997.pdf; ComponentLink1Description: https://datasheet.ciiva.com/3132/0734120110-rf-coax-connectors-3132997.pdf; ComponentLink2URL: https://datasheet.ciiva.com/7002/734120110-sd-7002502.pdf; ComponentLink2Description: https://datasheet.ciiva.com/7002/734120110-sd-7002502.pdf; ComponentLink3URL: https://datasheet.ciiva.com/7002/734120110-sd-7002507.pdf; ComponentLink3Description: https://datasheet.ciiva.com/7002/734120110-sd-7002507.pdf; Supplier Part Number 1: WM5587CT-ND
footprint UMC
pins: 1 SIG, 2 GND, 3 GND, 4 GND